# EAGLE library part DRV8876PWPR (library DRV8833PWPR)
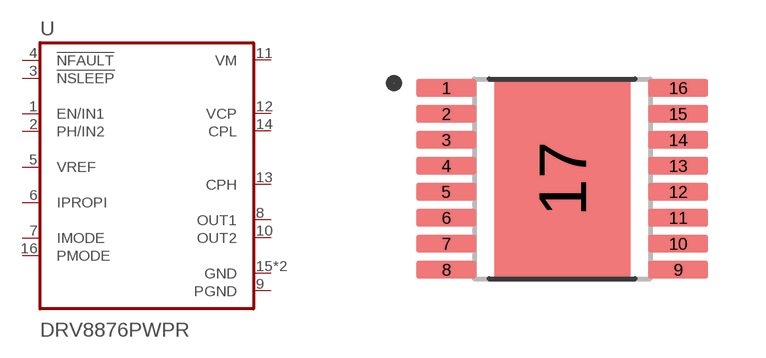
[diagram p1: symbol with the pads of IC_DRV8833PWPR; footprint IC_DRV8833PWPR]

Designator prefix -

## DRV8876PWPR  [IC_DRV8833PWPR]
1  EN/IN1  pwr
2  PH/IN2  pwr
3  !NSLEEP  pwr
4  !NFAULT  pwr
5  VREF  pwr
6  IPROPI  pwr
7  IMODE  pwr
8  OUT1  out
9  PGND  pwr
10  OUT2  out
11  VM  pwr
12  VCP
13  CPH
14  CPL
15  GND  pwr
16  PMODE  pwr
17  GND  pwr

## Footprint IC_DRV8833PWPR (pad centres in mm)
smd 1.5 x 0.45: 1 -2.9,2.275; 2 -2.9,1.625; 3 -2.9,0.975; 4 -2.9,0.325; 5 -2.9,-0.325; 6 -2.9,-0.975; 7 -2.9,-1.625; 8 -2.9,-2.275; 9 2.9,-2.275; 10 2.9,-1.625; 11 2.9,-0.975; 12 2.9,-0.325; 13 2.9,0.325; 14 2.9,0.975; 15 2.9,1.625; 16 2.9,2.275
smd 3.4 x 5: 17 0,0